# EAGLE library part SN74LVC2G04 (library Moodlight)
Dual Inverter
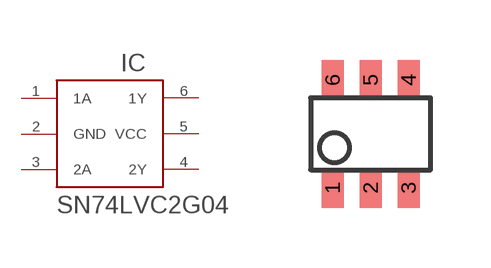
[diagram p2: symbol with the pads of SPT23-6; footprint SPT23-6]

Designator prefix IC

## SN74LVC2G04  [SPT23-6]
1  1A  in
2  GND  pwr
3  2A  in
4  2Y  out
5  VCC  pwr
6  1Y  out

## Footprint SPT23-6 (pad centres in mm)
SPT23-6 (DBV)
smd 0.55 x 1: 1 -0.95,-1.35; 2 0,-1.35; 3 0.95,-1.35; 4 0.95,1.35; 5 0,1.35; 6 -0.95,1.35